# Altium footprint library BGS12SN6.PcbLib: 1 footprints
Each footprint in its own frame and in the unit in brackets; x right, y up, seen from the top. Pads: shape width x height; smd on the part's side, far side on the other; paste and mask are expansions set on the pad; w line width, h text height; cw(c..) or ccw(c..) is an arc to the next point about the centre after c.
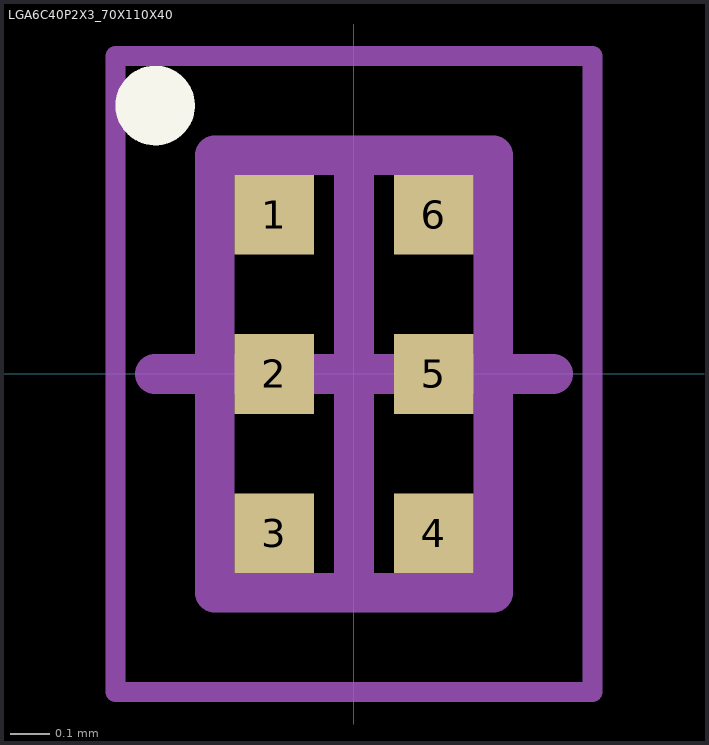
[diagram p0: the footprint, top view; thin cyan lines are the x and y axes]

## LGA6C40P2X3_70X110X40 [mm] "LGA, 6-Leads, Body 0,70x1,10mmx0,40mm, Pitch 0,40mm"
height 0.4
pads (6):
  rect 0.2x0.2 smd: 1(-0.2,0.4) 2(-0.2,0) 3(-0.2,-0.4) 4(0.2,-0.4) 5(0.2,0) 6(0.2,0.4)
Top Overlay:
  circle w0.1: c-0.5,0.675 r0.05
3D Top:
  lines w0.1: -0.35,-0.55 0.35,-0.55 0.35,0.55 -0.35,0.55 -0.35,-0.55
Courtyard Top:
  lines w0.05: -0.6,-0.8 0.6,-0.8 0.6,0.8 -0.6,0.8 -0.6,-0.8
  lines w0.1: -0.5,0 0.5,0 ; 0,-0.5 0,0.5
3D body: height 0.4, standoff 0, extent -0.375,-0.525 0.375,0.525